# Altium schematic symbol library Motors.SchLib: 1 symbol
Pins are listed as number, name and electrical type; pins without a type are passive.

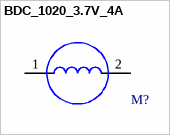
[diagram p0: symbol BDC_1020_3.7V_4A]

## BDC_1020_3.7V_4A
designator M?  (value not drawn)
Brushed DC motor 3.7V; MANUFACTURER: Aliexpress; MANUFACTURER REFERENCE: 1020; INPUT VOLTAGE MAX: 3.7; CURRENT MAX: 4A; PACKAGING: CUSTOM; MOUNTING: THT
footprint 1020_Motor
pins: 1, 2